# Altium footprint library Fuse.PcbLib: 7 footprints
Each footprint in its own frame and in the unit in brackets; x right, y up, seen from the top. Pads: shape width x height; smd on the part's side, far side on the other; paste and mask are expansions set on the pad; w line width, h text height; cw(c..) or ccw(c..) is an arc to the next point about the centre after c.
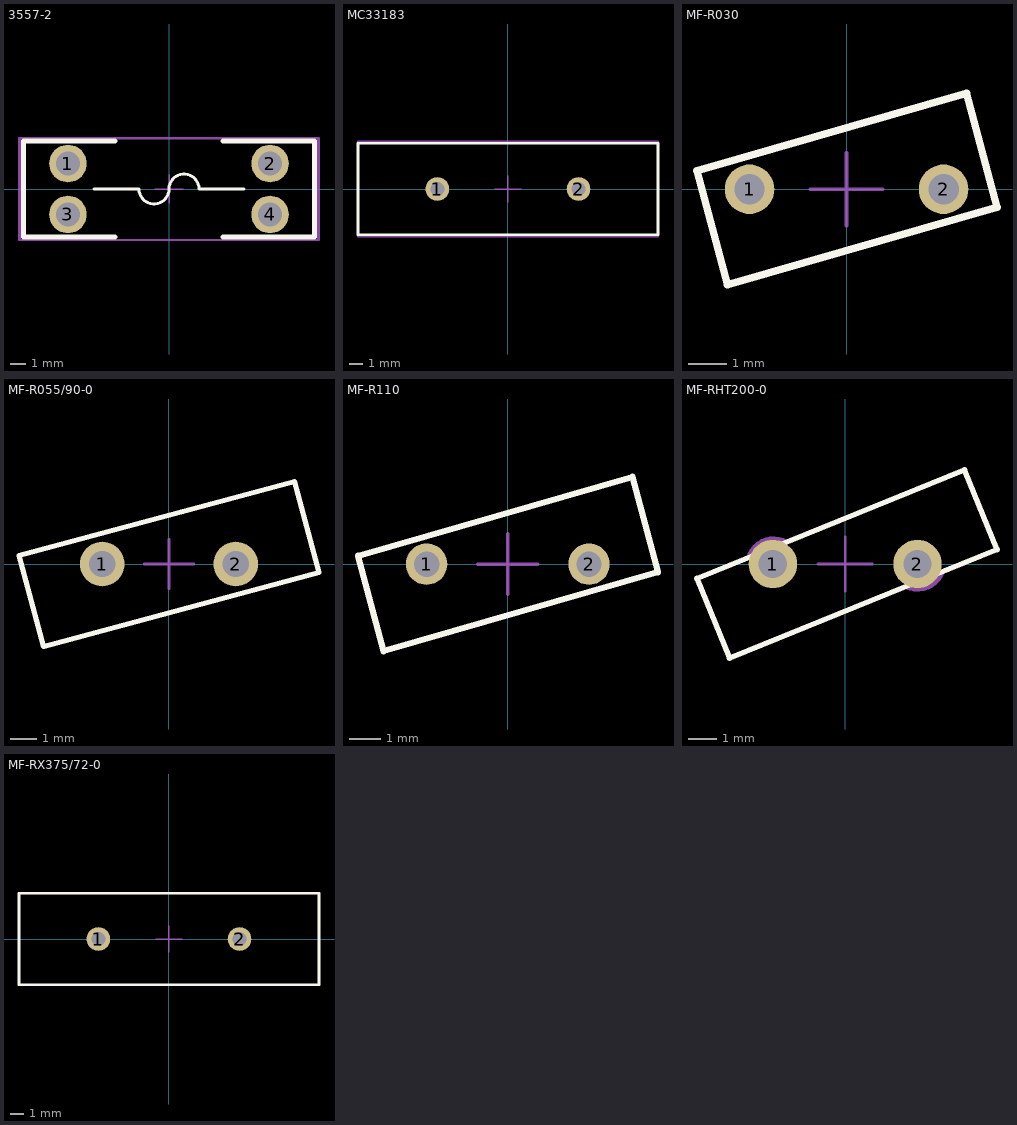
[diagram p0: the footprints below, top view; thin cyan lines are the x and y axes]

## 3557-2 [mm] "Fuse holder"
height 7.37
pads (4):
  round 2.5 hole 1.6: 1(-6.735,1.7) 2(6.735,1.7) 3(-6.735,-1.7) 4(6.735,-1.7)
Top Overlay:
  lines w0.2: -5,0 -2,0 ccw(c-1,0) 0,0 cw(c1,0) 2,0 5,0
  lines w0.305: -3.581,-3.2 -9.7,-3.2 -9.7,3.2 -3.581,3.2 ; 3.581,-3.2 9.7,-3.2 9.7,3.2 3.581,3.2
Mechanical 13:
  lines w0.1: -9.9,-3.4 -9.9,3.356 9.9,3.356 9.9,-3.4 -9.9,-3.4
Mechanical 15:
  lines w0.1: -0.953,0 0.953,0 ; 0,-0.953 0,0.953
  lines w0.15: -10,-3.4 10,-3.4 10,3.4 -10,3.4 -10,-3.4
Mechanical 17 (Mech17):
  text ".Designator" at -0.4,-0.2 h2
3D body "keystone-PN3557-2.STEP": height 7.39, standoff -2.77, extent -9.906,-3.375 9.906,3.356

## MC33183 [mm]
pads (2):
  round 1.7 hole 1: 1(-5.08,0) 2(5.08,0)
Top Overlay:
  lines w0.2: -10.795,-3.302 10.801,-3.302 10.801,3.302 -10.795,3.302 -10.795,-3.302
Mechanical 13:
  lines w0.127: -10.795,-3.302 -10.795,3.302 10.795,3.302 10.795,-3.302 -10.795,-3.302
Mechanical 15:
  lines w0.1: -0.953,0 0.953,0 ; 0,-0.953 0,0.953
  lines w0.15: -10.8,-3.4 10.8,-3.4 10.8,3.4 -10.8,3.4 -10.8,-3.4
Mechanical 17 (Mech17):
  text ".Designator" at -0.4,-0.2 h2
3D body "MF-R700.step": height 29.8, standoff -4, extent -10.801,-3.277 10.801,3.277

## MF-R030 [mm]
pads (2):
  round 1.3 hole 0.8: 1(-2.55,0) 2(2.55,0)
Top Overlay:
  lines w0.2: -3.931,0.483 -3.129,-2.509 3.955,-0.469 3.153,2.523 -3.931,0.483
Mechanical 13:
  lines w0.15: -3.931,0.483 -3.129,-2.509 3.955,-0.469 3.153,2.523 -3.931,0.483
Mechanical 15:
  lines w0.1: -0.953,0 0.953,0 ; 0,-0.953 0,0.953
  lines w0.15: -3.931,0.483 -3.129,-2.509 3.955,-0.469 3.153,2.523 -3.931,0.483
Mechanical 17 (Mech17):
  text ".Designator" at -0.4,-0.2 h1.5
3D body "MF-r030.stp": height 14.1, standoff -7.15, extent -3.984,-2.509 3.984,2.509

## MF-R055/90-0 [mm]
pads (2):
  round 1.7 hole 1: 1(-2.55,0) 2(2.55,0)
Top Overlay:
  lines w0.2: -5.73,0.327 4.799,3.149 ; -5.73,0.327 -4.799,-3.149 ; -4.779,-3.149 5.73,-0.327 ; 4.799,3.149 5.73,-0.327
Mechanical 13:
  lines w0.127: -5.73,0.327 4.799,3.149 ; -5.73,0.327 -4.799,-3.149 ; -4.779,-3.149 5.73,-0.327 ; 4.799,3.149 5.73,-0.327
Mechanical 15:
  lines w0.1: -0.953,0 0.953,0 ; 0,-0.953 0,0.953
  lines w0.15: -5.73,0.327 4.799,3.149 ; -5.73,0.327 -4.799,-3.149 ; -4.779,-3.149 5.73,-0.327 ; 4.799,3.149 5.73,-0.327
Mechanical 17 (Mech17):
  text ".Designator" at -0.4,-0.2 h1.5
3D body "mf-r055_90.stp": height 17.65, standoff -5.75, extent -5.73,-3.149 5.73,3.149

## MF-R110 [mm]
pads (2):
  round 1.3 hole 0.8: 1(-2.55,0) 2(2.55,0)
Top Overlay:
  lines w0.2: -4.705,0.26 3.915,2.742 4.717,-0.25 -3.903,-2.732 -4.705,0.26
Mechanical 13:
  lines w0.15: -4.705,0.26 -3.903,-2.732 4.717,-0.25 3.915,2.742 -4.705,0.26
Mechanical 15:
  lines w0.1: -0.953,0 0.953,0 ; 0,-0.953 0,0.953
  lines w0.15: -4.705,0.26 3.915,2.742 4.717,-0.25 -3.903,-2.732 -4.705,0.26
Mechanical 17 (Mech17):
  text ".Designator" at -0.4,-0.2 h1.5
3D body "mf-r110.stp": height 14.45, standoff -7.4, extent -4.686,-2.613 4.687,2.588

## MF-RHT200-0 [mm]
pads (2):
  round 1.7 hole 1: 1(-2.54,0) 2(2.54,0)
Top Overlay:
  lines w0.2: -5.207,-0.508 4.191,3.302 5.334,0.508 -4.064,-3.302 -5.207,-0.508
Mechanical 13:
  lines w0.127: -2.044,0.773 ccw(c-2.508,-0.032) -3.404,0.216 -5.207,-0.508 -4.051,-3.302 2.126,-0.798 ; -2.037,0.785 4.191,3.302 5.334,0.508 3.429,-0.254 cw(c2.54,0.038) 2.127,-0.802
Mechanical 15:
  lines w0.1: -0.953,0 0.953,0 ; 0,-0.953 0,0.953
  lines w0.15: -2.044,0.773 ccw(c-2.508,-0.032) -3.404,0.216 -5.207,-0.508 -4.051,-3.302 2.126,-0.798 ; -2.037,0.785 4.191,3.302 5.334,0.508 3.429,-0.254 cw(c2.54,0.038) 2.127,-0.802
Mechanical 17 (Mech17):
  text ".Designator" at -0.4,-0.2 h1.5
3D body "User Library-RUEF185.STEP": height 15.7, standoff -3, extent -5.237,-3.295 5.344,3.307

## MF-RX375/72-0 [mm]
pads (2):
  round 1.7 hole 1: 1(-5.08,0) 2(5.08,0)
Top Overlay:
  lines w0.2: -10.795,-3.302 -10.795,3.302 10.801,3.302 10.801,-3.302 -10.795,-3.302
Mechanical 13:
  lines w0.127: -10.795,-3.302 10.795,-3.302 10.795,3.302 -10.795,3.302 -10.795,-3.302
Mechanical 15:
  lines w0.1: -0.953,0 0.953,0 ; 0,-0.953 0,0.953
  lines w0.15: -10.8,-3.302 10.8,-3.302 10.8,3.302 -10.8,3.302 -10.8,-3.302
Mechanical 17 (Mech17):
  text ".Designator" at -0.4,-0.2 h2
3D body "MF-R700.step": height 29.8, standoff -4, extent -10.801,-3.277 10.801,3.277